# Altium schematic symbol library Schlib1.SchLib: 1 symbol
Pins are listed as number, name and electrical type; pins without a type are passive.

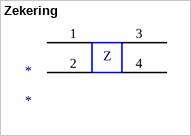
[diagram p0: symbol Zekering]

## Zekering
designator *
pins: 1 3, 2 4, 3 5, 4 6
text: Z